# Altium footprint library Calisma_1.PcbLib: 18 footprints (part 1 of 2)
Each footprint in its own frame and in the unit in brackets; x right, y up, seen from the top. Pads: shape width x height; smd on the part's side, far side on the other; paste and mask are expansions set on the pad; w line width, h text height; cw(c..) or ccw(c..) is an arc to the next point about the centre after c.
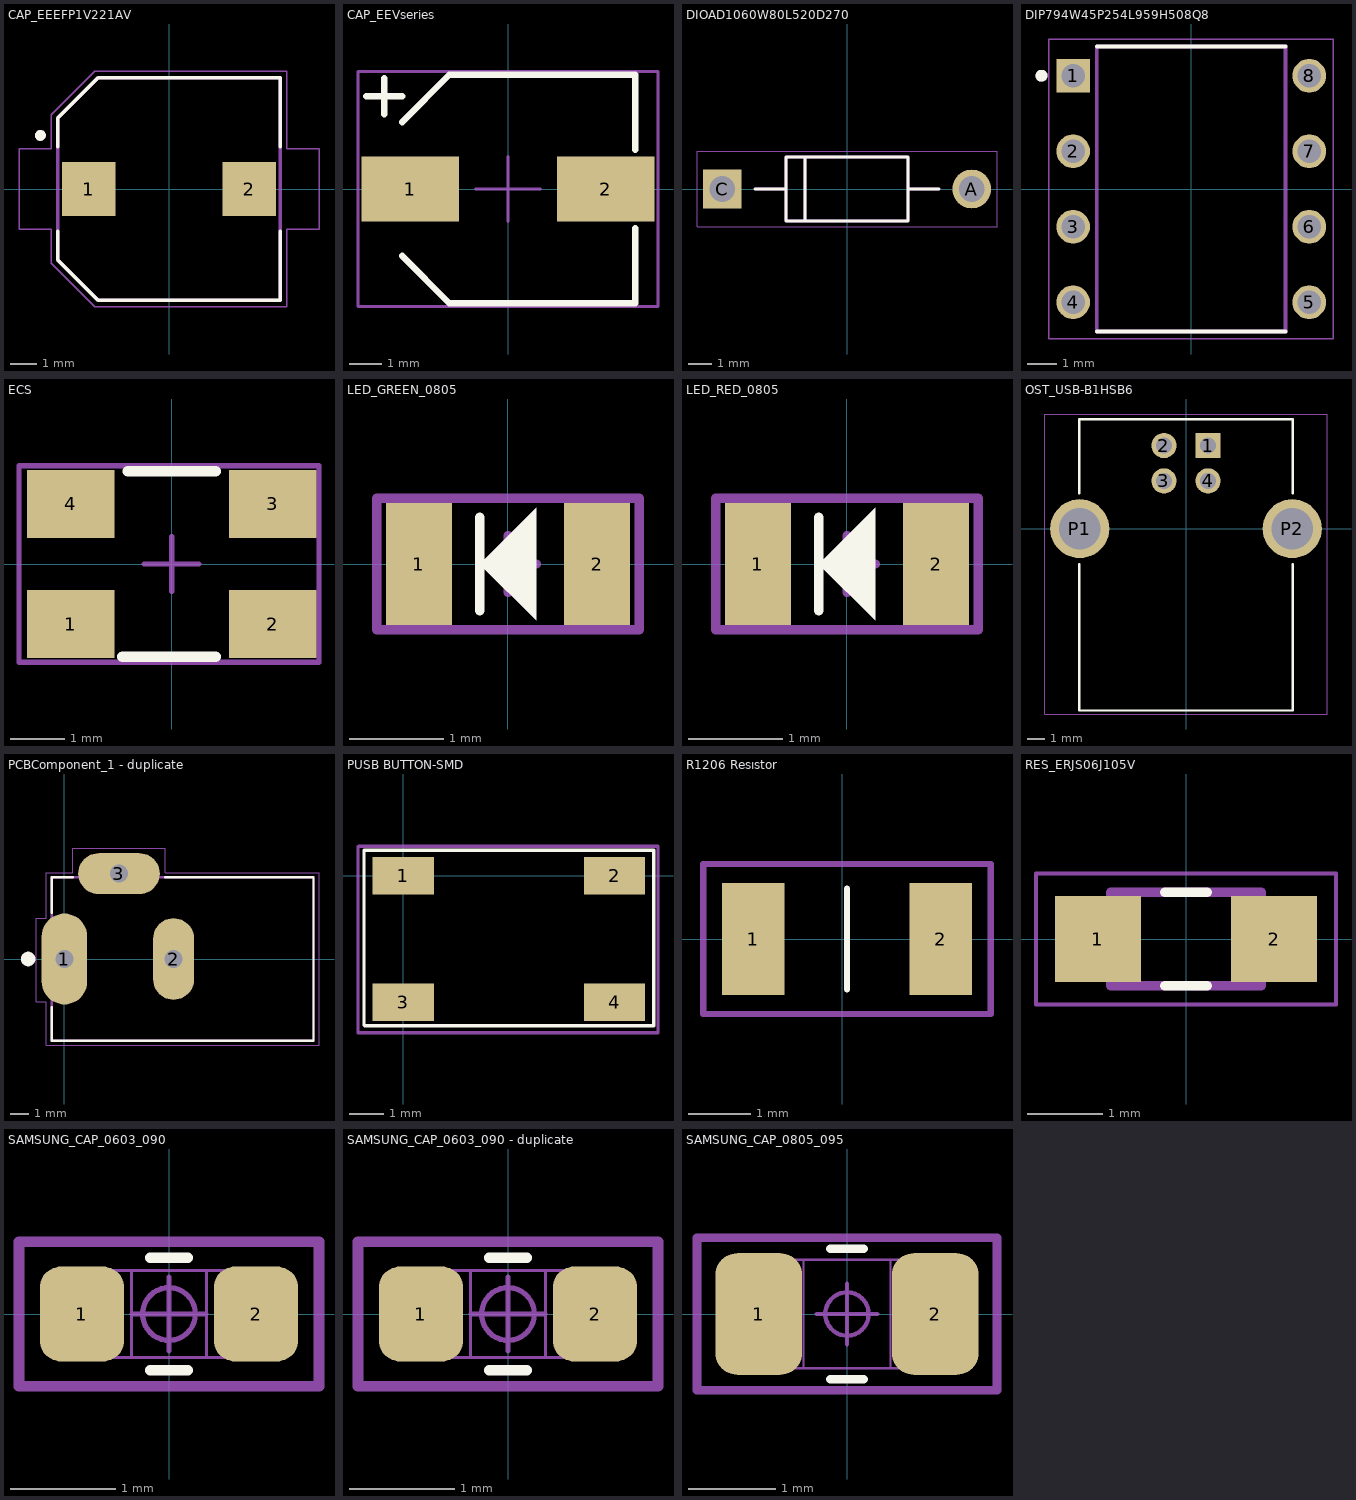
[diagram p0: the footprints below, top view; thin cyan lines are the x and y axes]

## CAP_EEEFP1V221AV [mm]
pads (2):
  rect 2x2 smd paste-2 mask+0: 1(-3,0) 2(3,0)
Top Overlay:
  circle w0.2: c-4.8,2 r0.1
  lines w0.127: -4.15,-1.57 -4.15,-2.65 -2.65,-4.15 4.15,-4.15 4.15,-1.57 ; -4.15,1.57 -4.15,2.65 -2.65,4.15 4.15,4.15 4.15,1.57
Mechanical 13:
  circle w0.2: c-4.8,2 r0.1
  lines w0.127: -4.15,-2.65 -4.15,2.65 -2.65,4.15 4.15,4.15 4.15,-4.15 -2.65,-4.15 -4.15,-2.65
Mechanical 15:
  lines w0.05: -5.6,-1.5 -4.4,-1.5 -4.4,-2.775 -2.775,-4.4 4.4,-4.4 4.4,-1.5 5.6,-1.5 5.6,1.5 4.4,1.5 4.4,4.4 -2.775,4.4 -4.4,2.775 -4.4,1.5 -5.6,1.5 -5.6,-1.5
3D body "step_temp.STEP": height 10.5, standoff 0, extent -4.85,-4.15 4.85,4.15

## CAP_EEVseries [mm]
pads (2):
  rect 3x2 smd mask+0.05: 1(-3,0) 2(3,0)
Top Overlay:
  lines w0.2: -4.35,2.85 -3.25,2.85 ; -3.8,2.3 -3.8,3.4 ; -3.25,-2.05 -1.8,-3.5 -1.5,-3.5 3.9,-3.5 3.9,-1.2 ; -3.25,2.05 -1.8,3.5 -1.5,3.5 3.9,3.5 3.9,1.2
Top Component Center:
  lines w0.1: -1,0 1,0 ; 0,-1 0,1 ; -4.6,-3.6 -4.6,3.6 4.6,3.6 4.6,-3.6 -4.6,-3.6
Top Designator:
  lines w0.1: -4.6,-3.6 -4.6,3.6 4.6,3.6 4.6,-3.6 -4.6,-3.6
  text "'.Designator'" at -2.846,-0.638 h1.52
3D body "EEV686M035A9HAA (1).step": height 8.01, standoff 0, extent -3.8,-3.4 3.8,3.4

## DIOAD1060W80L520D270 [mm]
pads (2):
  round 1.65 hole 1.1: A(5.3,0)
  rect 1.65x1.65 hole 1.1: C(-5.3,0)
Top Overlay:
  lines w0.127: -3.9,0 -2.6,0 ; 3.9,0 2.6,0 ; -2.6,0 -2.6,1.35 -1.775,1.35 ; -2.6,0 -2.6,-1.35 -1.775,-1.35 ; -1.775,-1.35 2.6,-1.35 2.6,0 ; -1.775,-1.35 -1.775,1.35 ; -1.775,1.35 2.6,1.35 2.6,0
Mechanical 13:
  lines w0.127: -3.9,0 -2.6,0 ; 3.9,0 2.6,0 ; -2.6,0 -2.6,1.35 -1.775,1.35 ; -2.6,0 -2.6,-1.35 -1.775,-1.35 ; -1.775,-1.35 2.6,-1.35 2.6,0 ; -1.775,-1.35 -1.775,1.35 ; -1.775,1.35 2.6,1.35 2.6,0
Mechanical 15:
  lines w0.05: -6.375,-1.6 6.375,-1.6 6.375,1.6 -6.375,1.6 -6.375,-1.6
3D body "step_temp.STEP": height 2.69, standoff -21.77, extent -5.474,-1.346 5.474,1.346

## DIP794W45P254L959H508Q8 [mm]
pads (8):
  rect 1.13x1.13 hole 0.78: 1(-3.97,3.81)
  round 1.13 hole 0.78: 2(-3.97,1.27) 3(-3.97,-1.27) 4(-3.97,-3.81) 5(3.97,-3.81) 6(3.97,-1.27) 7(3.97,1.27) 8(3.97,3.81)
Top Overlay:
  circle w0.2: c-5.035,3.81 r0.1
  lines w0.127: -3.175,-4.795 3.175,-4.795 ; -3.175,4.795 3.175,4.795
Mechanical 13:
  circle w0.2: c-5.035,3.81 r0.1
  lines w0.127: -3.175,-4.795 3.175,-4.795 3.175,4.795 -3.175,4.795 -3.175,-4.795
Mechanical 15:
  lines w0.05: -4.785,-5.045 4.785,-5.045 4.785,5.045 -4.785,5.045 -4.785,-5.045
3D body "step_temp.STEP": height 5.08, standoff -3.81, extent -3.937,-4.794 3.937,4.794

## ECS [mm]
pads (4):
  rect 1.6x1.25 smd mask+0.05: 1(-1.85,-1.1) 2(1.85,-1.1) 3(1.85,1.1) 4(-1.85,1.1)
Top Overlay:
  lines w0.2: -0.9,-1.7 0.8,-1.7 ; -0.8,1.7 0.8,1.7
Top Component Center:
  lines w0.1: -0.5,0 0.5,0 ; 0,-0.5 0,0.5 ; -2.8,-1.8 -2.8,1.8 2.7,1.8 2.7,-1.8 -2.8,-1.8
Top Designator:
  lines w0.1: -2.8,-1.8 -2.8,1.8 2.7,1.8 2.7,-1.8 -2.8,-1.8
  text "'.Designator'" at -2.246,-0.638 h1.52
3D body "ECS-160-20-30B-TR.STEP": height 0.85, standoff 0, extent -2.5,-1.6 2.5,1.6

## LED_GREEN_0805 [mm]
pads (2):
  rect 0.7x1.3 smd mask+0.05: 1(-0.95,0) 2(0.95,0)
Top Overlay:
  region: -0.3,0 0.3,0.6 0.3,-0.6
  lines w0.1: -0.3,-0.5 -0.3,0.5
Top Component Center:
  lines w0.1: -0.3,0 0.3,0 ; 0,-0.3 0,0.3 ; -1.4,-0.7 1.4,-0.7 1.4,0.7 -1.4,0.7 -1.4,-0.7
Top Designator:
  lines w0.1: -1.4,-0.7 1.4,-0.7 1.4,0.7 -1.4,0.7 -1.4,-0.7
  text "'.Designator'" at -1.25,-0.317 h0.7
3D body "SMD_0805LED_GREEN.STEP": height 1.1, standoff 0, extent -1.01,-0.625 1.01,0.625

## LED_RED_0805 [mm]
pads (2):
  rect 0.7x1.3 smd mask+0.05: 1(-0.95,0) 2(0.95,0)
Top Overlay:
  region: -0.3,0 0.3,0.6 0.3,-0.6
  lines w0.1: -0.3,-0.5 -0.3,0.5
Top Component Center:
  lines w0.1: -0.3,0 0.3,0 ; 0,-0.3 0,0.3 ; -1.4,-0.7 1.4,-0.7 1.4,0.7 -1.4,0.7 -1.4,-0.7
Top Designator:
  lines w0.1: -1.4,-0.7 1.4,-0.7 1.4,0.7 -1.4,0.7 -1.4,-0.7
  text "'.Designator'" at -1.25,-0.317 h0.7
3D body "SMD_0805LED_RED.STEP": height 1.1, standoff 0, extent -1.01,-0.625 1.01,0.625

## OST_USB-B1HSB6 [mm]
pads (6):
  rect 1.428x1.428 hole 0.92: 1(1.25,4.71)
  round 1.428 hole 0.92: 2(-1.25,4.71) 3(-1.25,2.71) 4(1.25,2.71)
  round 3.346 hole 2.33: P1(-6.02,0) P2(6.02,0)
Top Overlay:
  lines w0.127: -6.05,-2 -6.05,-10.3 6.05,-10.3 6.05,-2 ; -6.05,2 -6.05,6.2 6.05,6.2 6.05,2
Mechanical 15:
  lines w0.05: -8,-10.5 8,-10.5 8,6.5 -8,6.5 -8,-10.5
3D body "step_temp.STEP": height 10.9, standoff -3.6, extent -7.42,-8.25 7.42,8.25

## PCBComponent_1 [mm]

## PCBComponent_1 - duplicate [mm]
pads (3):
  oval 2.5x5 hole 1 square: 1(0,0)
  oval 2.25x4.5 hole 1 square: 2(6,0)
  oval 4.5x2.25 hole 1 square: 3(3,4.7)
Top Overlay:
  circle w0.4: c-2,0 r0.2
  lines w0.127: -0.7,-2.65 -0.7,-4.5 13.7,-4.5 13.7,4.5 5.55,4.5 ; -0.7,2.55 -0.7,4.5 0.45,4.5
Mechanical 13:
  lines w0.127: -0.7,-4.5 -0.7,4.5 13.7,4.5 13.7,-4.5 -0.7,-4.5
Mechanical 15:
  lines w0.05: -1.55,-2.35 -1,-2.35 -1,-4.75 14,-4.75 14,4.75 5.55,4.75 5.55,6.1 0.45,6.1 0.45,4.75 -1,4.75 -1,2.25 -1.55,2.25 -1.55,-2.35
3D body "step_temp.STEP": height 11, standoff -3.5, extent -0.7,-4.5 13.7,4.9

## PUSB BUTTON-SMD [mm]
pads (4):
  rect 1.8x1.1 smd mask+0.05: 1(0,0) 2(6.2,0) 3(0,-3.7) 4(6.2,-3.7)
Top Overlay:
  lines w0.1: -1.15,-4.375 -1.15,0.75 7.35,0.75 7.35,-4.4 -1.125,-4.4
Mechanical 3:
  lines w0.1: -1.325,-4.6 -1.325,0.85 -1.3,0.875 7.475,0.875 7.475,-4.6 -1.325,-4.6
3D body "User Library-4x4_SMD_Switch.step": height 1.5, standoff 0, extent -0.2,-4.5 6.2,0.7

## R1206 Resıstor [mm]
pads (2):
  rect 1x1.8 smd mask+0.05: 1(-1.425,0) 2(1.575,0)
Top Overlay:
  lines w0.1: 0.075,-0.805 0.075,0.805
Mechanical 3:
  lines w0.1: -2.225,-1.2 -2.225,1.2 2.375,1.2 2.375,-1.2 -2.225,-1.2
3D body "1206RES.step": height 0.55, standoff 0, extent -1.525,-0.805 1.675,0.805

## RES_ERJS06J105V [mm]
pads (2):
  rect 1.15x1.15 smd: 1(-1.175,0) 2(1.175,0)
Top Overlay:
  lines w0.127: -0.28,-0.625 0.28,-0.625 ; -0.28,0.625 0.28,0.625
Mechanical 13:
  lines w0.127: -1,-0.625 1,-0.625 1,0.625 -1,0.625 -1,-0.625
Mechanical 15:
  lines w0.05: -2,-0.875 2,-0.875 2,0.875 -2,0.875 -2,-0.875
3D body "step_temp.STEP": height 0.6, standoff 0, extent -1,-0.625 1,0.625

## SAMSUNG_CAP_0603_090 [mm]
pads (2):
  rrect50% 0.8x0.9 smd paste+0 mask+0.04: 1(-0.825,0) 2(0.825,0)
Top Overlay:
  lines w0.1: -0.178,-0.533 0.178,-0.533 ; -0.178,0.533 0.178,0.533
Mechanical 13:
  lines w0.025: -0.8,-0.412 0.8,-0.412 ; -0.8,-0.401 -0.8,0.412 0.8,0.412 0.8,-0.401 ; -0.356,-0.406 -0.356,0.406 ; 0.356,-0.406 0.356,0.406
Mechanical 15:
  circle w0.05: c0,0 r0.25
  lines w0.05: -0.35,0 0.35,0 ; 0,-0.35 0,0.35
  lines w0.1: -1.422,-0.686 1.422,-0.686 1.422,0.686 -1.422,0.686 -1.422,-0.686
3D body "CAP 0603.STEP": height 0.81, standoff -0.01, extent -0.8,-0.412 0.8,0.412

## SAMSUNG_CAP_0603_090 - duplicate [mm]
pads (2):
  rrect50% 0.8x0.9 smd paste+0 mask+0.04: 1(-0.825,0) 2(0.825,0)
Top Overlay:
  lines w0.1: -0.178,-0.533 0.178,-0.533 ; -0.178,0.533 0.178,0.533
Mechanical 13:
  lines w0.025: -0.8,-0.412 0.8,-0.412 ; -0.8,-0.401 -0.8,0.412 0.8,0.412 0.8,-0.401 ; -0.356,-0.406 -0.356,0.406 ; 0.356,-0.406 0.356,0.406
Mechanical 15:
  circle w0.05: c0,0 r0.25
  lines w0.05: -0.35,0 0.35,0 ; 0,-0.35 0,0.35
  lines w0.1: -1.422,-0.686 -1.422,0.686 1.422,0.686 1.422,-0.686 -1.422,-0.686
3D body "CAP 0603.STEP": height 0.81, standoff -0.01, extent -0.8,-0.412 0.8,0.412

## SAMSUNG_CAP_0805_095 [mm]
pads (2):
  rrect50% 1x1.4 smd paste+0 mask+0.04: 1(-1.016,0) 2(1.016,0)
Top Overlay:
  lines w0.1: -0.192,-0.752 0.192,-0.752 ; -0.192,0.752 0.192,0.752
Mechanical 13:
  lines w0.025: -1,-0.625 -1,0.625 ; -1,-0.625 -0.5,-0.625 -0.5,0.625 -1,0.625 ; -1,-0.625 1,-0.625 ; -1,-0.625 -1,0.625 ; -1,0.625 1,0.625 ; 1,-0.625 0.5,-0.625 0.5,0.625 1,0.625 ; 1,-0.625 1,0.625 ; 1,-0.625 1,0.625
Mechanical 15:
  circle w0.05: c0,0 r0.25
  lines w0.05: -0.35,0 0.35,0 ; 0,-0.35 0,0.35
  lines w0.1: -1.727,-0.879 -1.727,0.879 1.727,0.879 1.727,-0.879 -1.727,-0.879
3D body "CAP_0805_095.step": height 0.96, standoff -0.01, extent -1,-0.635 1,0.639